# Altium schematic symbol library 1.28IPS.SCHLIB: 1 symbol
Pins are listed as number, name and electrical type; pins without a type are passive.

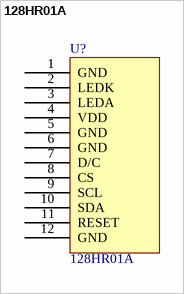
[diagram p0: symbol 128HR01A]

## 128HR01A
designator U?
1.28 TFT IPS
footprint 1.28_12P_0.7mm
pins: 1 GND, 2 LEDK, 3 LEDA, 4 VDD, 5 GND, 6 GND, 7 D/C, 8 CS, 9 SCL, 10 SDA, 11 RESET, 12 GND